# Altium schematic symbol library DF51KB-2P-2DS(800).Schlib: 1 symbol
Pins are listed as number, name and electrical type; pins without a type are passive.

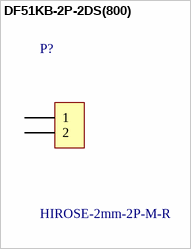
[diagram p0: symbol DF51KB-2P-2DS(800)]

## DF51KB-2P-2DS(800)
designator P?, comment HIROSE-2mm-2P-M-R
Hirose 2 Pin, Right Angle Pin Header
pins: 1, 2